# Altium footprint library 2278429.PcbLib: 1 footprints
Each footprint in its own frame and in the unit in brackets; x right, y up, seen from the top. Pads: shape width x height; smd on the part's side, far side on the other; paste and mask are expansions set on the pad; w line width, h text height; cw(c..) or ccw(c..) is an arc to the next point about the centre after c.
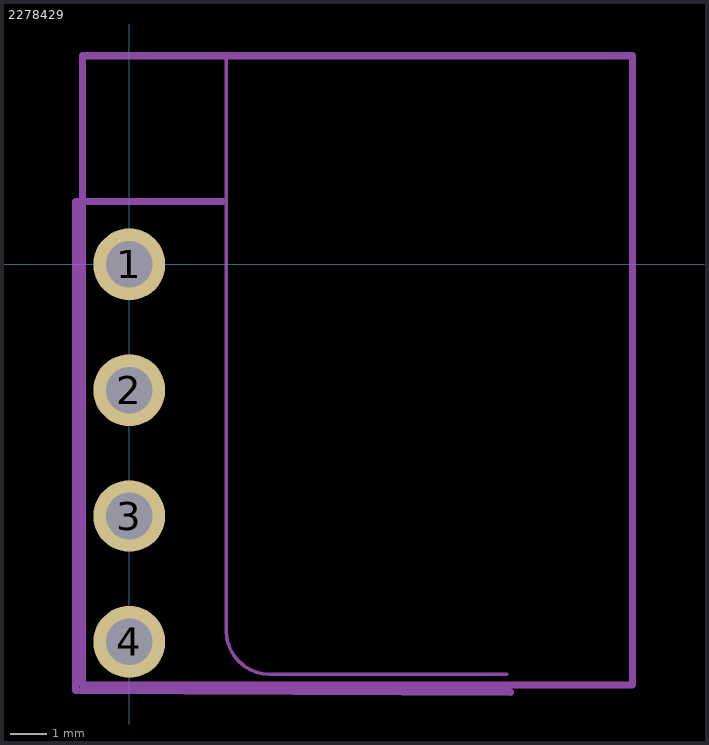
[diagram p0: the footprint, top view; thin cyan lines are the x and y axes]

## 2278429 [mm]
pads (4):
  round 2 hole 1.3 mask+0.05: 1(0,0) 2(0,-3.5) 3(0,-7) 4(0,-10.5)
Board Shape:
  lines w0.1: 2.7,5.8 2.7,-10.2 ccw(c3.9,-10.2) 3.9,-11.4 10.5,-11.4
Top Assembly:
  lines w0.2: -1.3,-11.7 -1.3,5.8 14,5.8 14,-11.7 -1.3,-11.7
Top Courtyard:
  lines w0.2: 2.6,1.75 -1.5,1.75 -1.5,-11.85 10.6,-11.9
3D body "bez_plytki.step": height 11.57, standoff -4.47, extent -1.3,-11.7 14,5.85